# EAGLE library part SPARKFUN_XMEGA_A1U (library AmandaEagleLibrary)
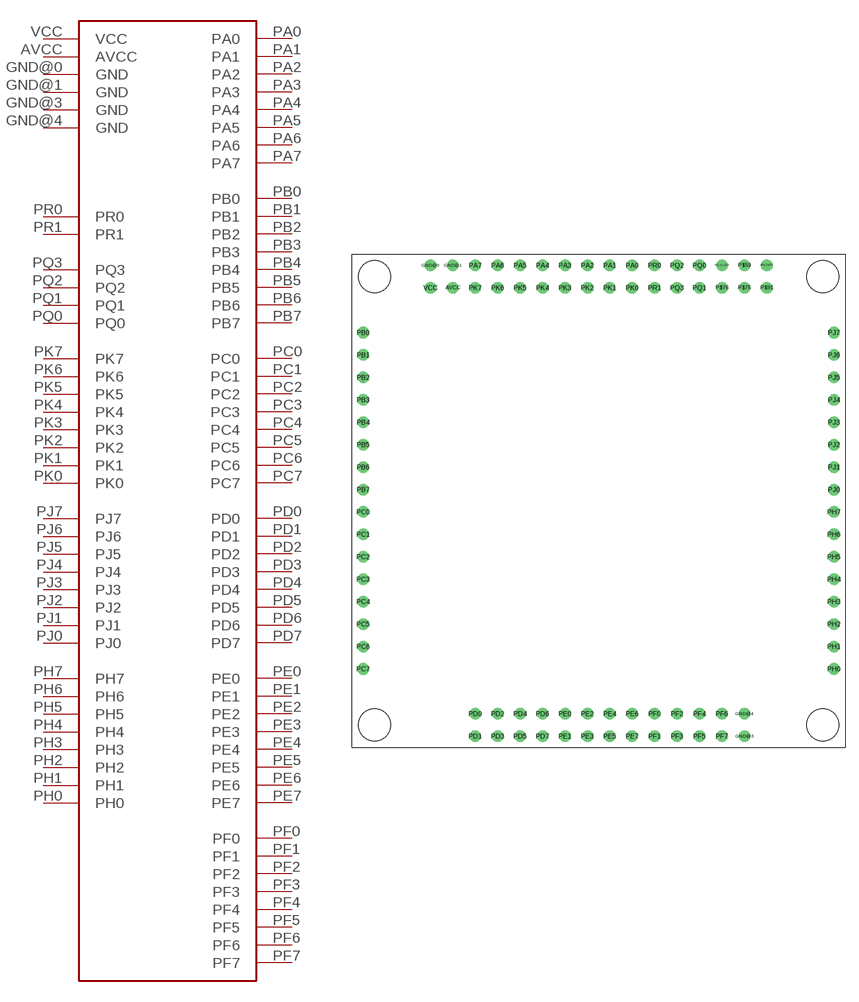
[diagram p12: symbol with the pads of SPARKFUN_XMEGA_A1U; footprint SPARKFUN_XMEGA_A1U]

Designator prefix -

## SPARKFUN_XMEGA_A1U  [SPARKFUN_XMEGA_A1U]
AVCC  AVCC
GND@0  GND
GND@1  GND
GND@3  GND
GND@4  GND
PA0  PA0
PA1  PA1
PA2  PA2
PA3  PA3
PA4  PA4
PA5  PA5
PA6  PA6
PA7  PA7
PB0  PB0
PB1  PB1
PB2  PB2
PB3  PB3
PB4  PB4
PB5  PB5
PB6  PB6
PB7  PB7
PC0  PC0
PC1  PC1
PC2  PC2
PC3  PC3
PC4  PC4
PC5  PC5
PC6  PC6
PC7  PC7
PD0  PD0
PD1  PD1
PD2  PD2
PD3  PD3
PD4  PD4
PD5  PD5
PD6  PD6
PD7  PD7
PE0  PE0
PE1  PE1
PE2  PE2
PE3  PE3
PE4  PE4
PE5  PE5
PE6  PE6
PE7  PE7
PF0  PF0
PF1  PF1
PF2  PF2
PF3  PF3
PF4  PF4
PF5  PF5
PF6  PF6
PF7  PF7
PH0  PH0
PH1  PH1
PH2  PH2
PH3  PH3
PH4  PH4
PH5  PH5
PH6  PH6
PH7  PH7
PJ0  PJ0
PJ1  PJ1
PJ2  PJ2
PJ3  PJ3
PJ4  PJ4
PJ5  PJ5
PJ6  PJ6
PJ7  PJ7
PK0  PK0
PK1  PK1
PK2  PK2
PK3  PK3
PK4  PK4
PK5  PK5
PK6  PK6
PK7  PK7
PQ0  PQ0
PQ1  PQ1
PQ2  PQ2
PQ3  PQ3
PR0  PR0
PR1  PR1
VCC  VCC

## Footprint SPARKFUN_XMEGA_A1U (pad centres in mm)
drill 0.8: AVCC 11.43,52.07; GND@0 8.89,54.61; GND@1 11.43,54.61; GND@3 44.45,1.27; GND@4 44.45,3.81; P$59 44.45,54.61; P$75 44.45,52.07; P$76 41.91,52.07; P$91 46.99,52.07; PA0 31.75,54.61; PA1 29.21,54.61; PA2 26.67,54.61; PA3 24.13,54.61; PA4 21.59,54.61; PA5 19.05,54.61; PA6 16.51,54.61; PA7 13.97,54.61; PB0 1.27,46.99; PB1 1.27,44.45; PB2 1.27,41.91; PB3 1.27,39.37; PB4 1.27,36.83; PB5 1.27,34.29; PB6 1.27,31.75; PB7 1.27,29.21; PC0 1.27,26.67; PC1 1.27,24.13; PC2 1.27,21.59; PC3 1.27,19.05; PC4 1.27,16.51; PC5 1.27,13.97; PC6 1.27,11.43; PC7 1.27,8.89; PD0 13.97,3.81; PD1 13.97,1.27; PD2 16.51,3.81; PD3 16.51,1.27; PD4 19.05,3.81; PD5 19.05,1.27; PD6 21.59,3.81; PD7 21.59,1.27; PDI_CLOCK 41.91,54.61; PDI_DATA 46.99,54.61; PE0 24.13,3.81; PE1 24.13,1.27; PE2 26.67,3.81; PE3 26.67,1.27; PE4 29.21,3.81; PE5 29.21,1.27; PE6 31.75,3.81; PE7 31.75,1.27; PF0 34.29,3.81; PF1 34.29,1.27; PF2 36.83,3.81; PF3 36.83,1.27; PF4 39.37,3.81; PF5 39.37,1.27; PF6 41.91,3.81; PF7 41.91,1.27; PH0 54.61,8.89; PH1 54.61,11.43; PH2 54.61,13.97; PH3 54.61,16.51; PH4 54.61,19.05; PH5 54.61,21.59; PH6 54.61,24.13; PH7 54.61,26.67; PJ0 54.61,29.21; PJ1 54.61,31.75; PJ2 54.61,34.29; PJ3 54.61,36.83; PJ4 54.61,39.37; PJ5 54.61,41.91; PJ6 54.61,44.45; PJ7 54.61,46.99; PK0 31.75,52.07; PK1 29.21,52.07; PK2 26.67,52.07; PK3 24.13,52.07; PK4 21.59,52.07; PK5 19.05,52.07; PK6 16.51,52.07; PK7 13.97,52.07; PQ0 39.37,54.61; PQ1 39.37,52.07; PQ2 36.83,54.61; PQ3 36.83,52.07; PR0 34.29,54.61; PR1 34.29,52.07; VCC 8.89,52.07